# EAGLE library part 61301211121 (library Headers)
CONN HEADER VERT 12POS 2.54MM Manufacturer's datasheet <https://katalog.we-online.de/em/datasheet/6130xx11121.pdf>
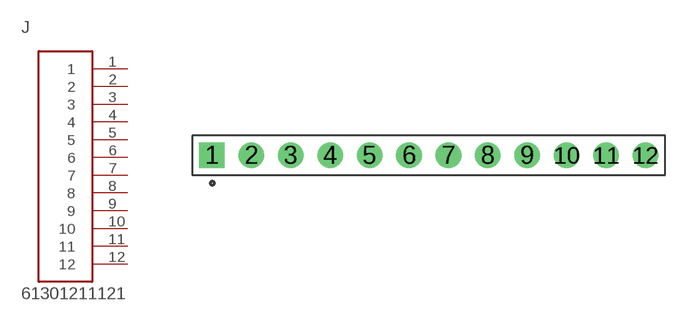
[diagram p12: symbol with the pads of 61301211121; footprint 61301211121]

Designator prefix J

## 61301211121 (CREATED_BY: PCBLayout.com; DIGIKEY_PART_NUMBER: 732-5323-ND; MANUFACTURER: Wurth Electronics Inc.; MPN: 61301211121)  [61301211121]
1  1  pas
2  2  pas
3  3  pas
4  4  pas
5  5  pas
6  6  pas
7  7  pas
8  8  pas
9  9  pas
10  10  pas
11  11  pas
12  12  pas

## Footprint 61301211121 (pad centres in mm)
drill 1.1 square: 1 -13.97,0
drill 1.1: 2 -11.43,0; 3 -8.89,0; 4 -6.35,0; 5 -3.81,0; 6 -1.27,0; 7 1.27,0; 8 3.81,0; 9 6.35,0; 10 8.89,0; 11 11.43,0; 12 13.97,0